# Altium schematic symbol library 7812.SchLib: 1 symbol
Pins are listed as number, name and electrical type; pins without a type are passive.

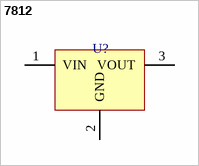
[diagram p0: symbol 7812]

## 7812
designator U?  (value not drawn)
pins: 1 VIN, 2 GND, 3 VOUT